# EAGLE library part HCPL-263L (library cTechnologies_integratedCircuits)
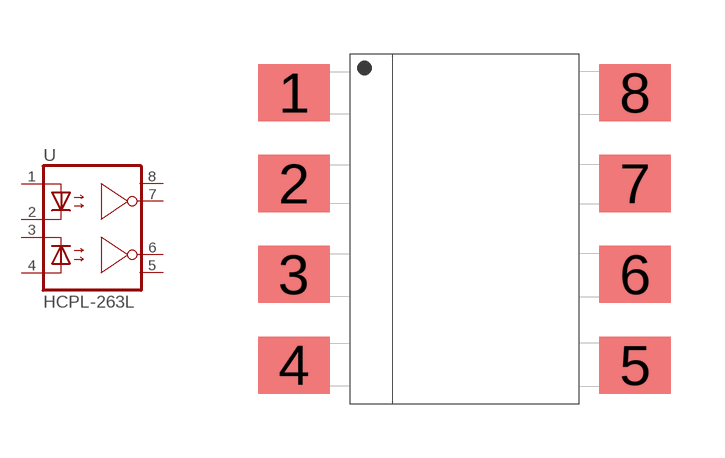
[diagram p16: symbol with the pads of DIL8-SMD; footprint DIL8-SMD]

Designator prefix U

## HCPL-263L  [DIL8-SMD]
1  A1  pas
2  C1  pas
3  C2  pas
4  A2  pas
5  GND  pas
6  VO2  pas
7  VO1  pas
8  VCC  pas

## Footprint DIL8-SMD (pad centres in mm)
Dual In Line SMD 8 pol. Source: LITE-ON ELECTRONICS, LTV816.pdf
smd 2 x 1.6: 1 -4.77,3.81; 2 -4.77,1.27; 3 -4.77,-1.27; 4 -4.77,-3.81; 5 4.77,-3.81; 6 4.77,-1.27; 7 4.77,1.27; 8 4.77,3.81